# EAGLE library part FTDI_MORPH-IC_II (library ik)
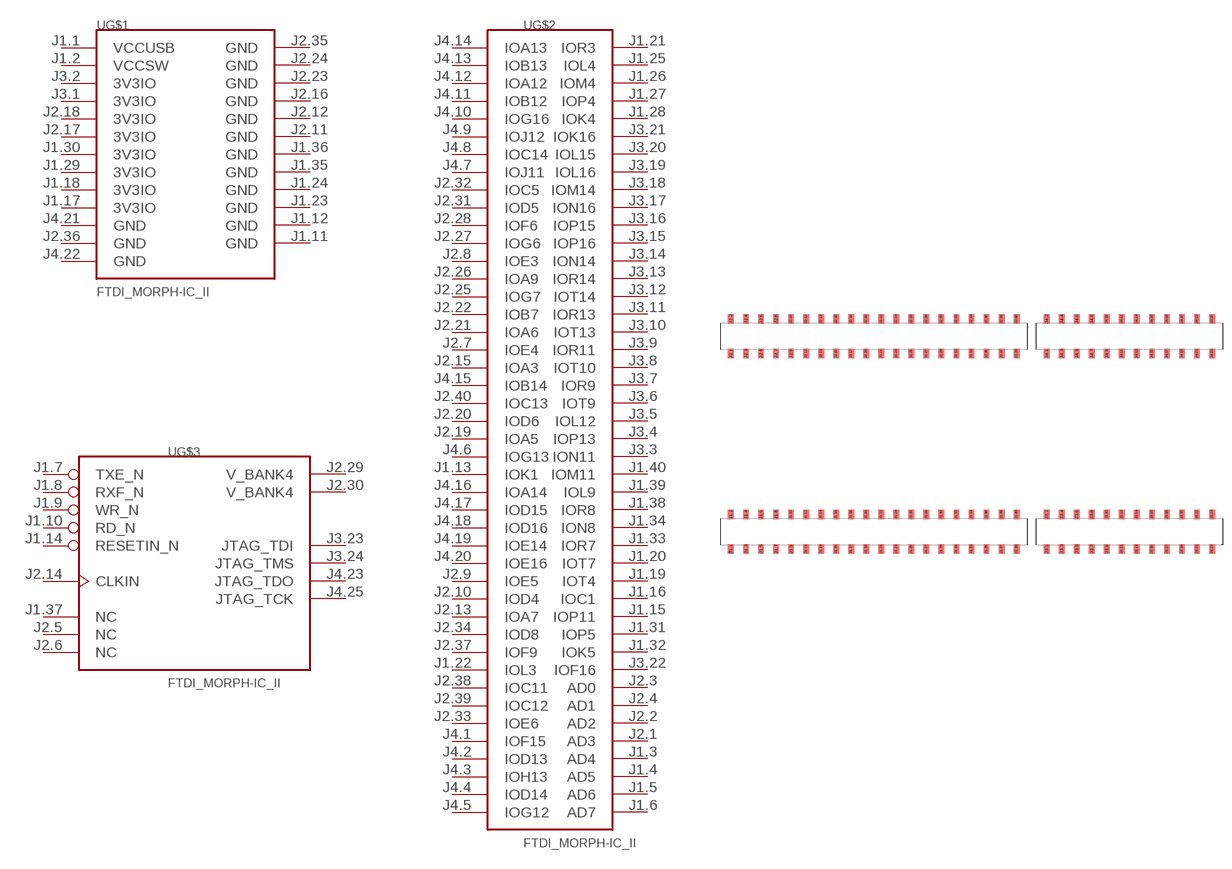
[diagram p6: symbol with the pads of MORPH-IC-II; footprint MORPH-IC-II]

Designator prefix -; gates G$1=FTDI_MORPH-IC_II_PWR G$2=FTDI_MORPH-IC_II_IO G$3=FTDI_MORPH-IC_II_MISC

## FTDI_MORPH-IC_II  [MORPH-IC-II]
J1.1  G$1:VCCUSB  pwr
J1.2  G$1:VCCSW  pwr
J1.3  G$2:AD4
J1.4  G$2:AD5
J1.5  G$2:AD6
J1.6  G$2:AD7
J1.7  G$3:TXE_N
J1.8  G$3:RXF_N
J1.9  G$3:WR_N
J1.10  G$3:RD_N
J1.11  G$1:GND  pwr
J1.12  G$1:GND  pwr
J1.13  G$2:IOK1
J1.14  G$3:RESETIN_N
J1.15  G$2:IOP11
J1.16  G$2:IOC1
J1.17  G$1:3V3IO  pwr
J1.18  G$1:3V3IO  pwr
J1.19  G$2:IOT4
J1.20  G$2:IOT7
J1.21  G$2:IOR3
J1.22  G$2:IOL3
J1.23  G$1:GND  pwr
J1.24  G$1:GND  pwr
J1.25  G$2:IOL4
J1.26  G$2:IOM4
J1.27  G$2:IOP4
J1.28  G$2:IOK4
J1.29  G$1:3V3IO  pwr
J1.30  G$1:3V3IO  pwr
J1.31  G$2:IOP5
J1.32  G$2:IOK5
J1.33  G$2:IOR7
J1.34  G$2:ION8
J1.35  G$1:GND  pwr
J1.36  G$1:GND  pwr
J1.37  G$3:NC  nc
J1.38  G$2:IOR8
J1.39  G$2:IOL9
J1.40  G$2:IOM11
J2.1  G$2:AD3
J2.2  G$2:AD2
J2.3  G$2:AD0
J2.4  G$2:AD1
J2.5  G$3:NC  nc
J2.6  G$3:NC  nc
J2.7  G$2:IOE4
J2.8  G$2:IOE3
J2.9  G$2:IOE5
J2.10  G$2:IOD4
J2.11  G$1:GND  pwr
J2.12  G$1:GND  pwr
J2.13  G$2:IOA7
J2.14  G$3:CLKIN  in
J2.15  G$2:IOA3
J2.16  G$1:GND  pwr
J2.17  G$1:3V3IO  pwr
J2.18  G$1:3V3IO  pwr
J2.19  G$2:IOA5
J2.20  G$2:IOD6
J2.21  G$2:IOA6
J2.22  G$2:IOB7
J2.23  G$1:GND  pwr
J2.24  G$1:GND  pwr
J2.25  G$2:IOG7
J2.26  G$2:IOA9
J2.27  G$2:IOG6
J2.28  G$2:IOF6
J2.29  G$3:V_BANK4
J2.30  G$3:V_BANK4
J2.31  G$2:IOD5
J2.32  G$2:IOC5
J2.33  G$2:IOE6
J2.34  G$2:IOD8
J2.35  G$1:GND  pwr
J2.36  G$1:GND  pwr
J2.37  G$2:IOF9
J2.38  G$2:IOC11
J2.39  G$2:IOC12
J2.40  G$2:IOC13
J3.1  G$1:3V3IO  pwr
J3.2  G$1:3V3IO  pwr
J3.3  G$2:ION11
J3.4  G$2:IOP13
J3.5  G$2:IOL12
J3.6  G$2:IOT9
J3.7  G$2:IOR9
J3.8  G$2:IOT10
J3.9  G$2:IOR11
J3.10  G$2:IOT13
J3.11  G$2:IOR13
J3.12  G$2:IOT14
J3.13  G$2:IOR14
J3.14  G$2:ION14
J3.15  G$2:IOP16
J3.16  G$2:IOP15
J3.17  G$2:ION16
J3.18  G$2:IOM14
J3.19  G$2:IOL16
J3.20  G$2:IOL15
J3.21  G$2:IOK16
J3.22  G$2:IOF16
J3.23  G$3:JTAG_TDI
J3.24  G$3:JTAG_TMS
J4.1  G$2:IOF15
J4.2  G$2:IOD13
J4.3  G$2:IOH13
J4.4  G$2:IOD14
J4.5  G$2:IOG12
J4.6  G$2:IOG13
J4.7  G$2:IOJ11
J4.8  G$2:IOC14
J4.9  G$2:IOJ12
J4.10  G$2:IOG16
J4.11  G$2:IOB12
J4.12  G$2:IOA12
J4.13  G$2:IOB13
J4.14  G$2:IOA13
J4.15  G$2:IOB14
J4.16  G$2:IOA14
J4.17  G$2:IOD15
J4.18  G$2:IOD16
J4.19  G$2:IOE14
J4.20  G$2:IOE16
J4.21  G$1:GND  pwr
J4.22  G$1:GND  pwr
J4.23  G$3:JTAG_TDO
J4.25  G$3:JTAG_TCK

## Footprint MORPH-IC-II (pad centres in mm)
FTDI Morph-IC-II headers
smd 0.991 x 1.549: J1.1 -68.58,-18.542; J1.2 -68.58,-12.7; J1.3 -66.04,-18.542; J1.4 -66.04,-12.7; J1.5 -63.5,-18.542; J1.6 -63.5,-12.7; J1.7 -60.96,-18.542; J1.8 -60.96,-12.7; J1.9 -58.42,-18.542; J1.10 -58.42,-12.7; J1.11 -55.88,-18.542; J1.12 -55.88,-12.7; J1.13 -53.34,-18.542; J1.14 -53.34,-12.7; J1.15 -50.8,-18.542; J1.16 -50.8,-12.7; J1.17 -48.26,-18.542; J1.18 -48.26,-12.7; J1.19 -45.72,-18.542; J1.20 -45.72,-12.7; J1.21 -43.18,-18.542; J1.22 -43.18,-12.7; J1.23 -40.64,-18.542; J1.24 -40.64,-12.7; J1.25 -38.1,-18.542; J1.26 -38.1,-12.7; J1.27 -35.56,-18.542; J1.28 -35.56,-12.7; J1.29 -33.02,-18.542; J1.30 -33.02,-12.7; J1.31 -30.48,-18.542; J1.32 -30.48,-12.7; J1.33 -27.94,-18.542; J1.34 -27.94,-12.7; J1.35 -25.4,-18.542; J1.36 -25.4,-12.7; J1.37 -22.86,-18.542; J1.38 -22.86,-12.7; J1.39 -20.32,-18.542; J1.40 -20.32,-12.7; J2.1 -68.58,14.478; J2.2 -68.58,20.32; J2.3 -66.04,14.478; J2.4 -66.04,20.32; J2.5 -63.5,14.478; J2.6 -63.5,20.32; J2.7 -60.96,14.478; J2.8 -60.96,20.32; J2.9 -58.42,14.478; J2.10 -58.42,20.32; J2.11 -55.88,14.478; J2.12 -55.88,20.32; J2.13 -53.34,14.478; J2.14 -53.34,20.32; J2.15 -50.8,14.478; J2.16 -50.8,20.32; J2.17 -48.26,14.478; J2.18 -48.26,20.32; J2.19 -45.72,14.478; J2.20 -45.72,20.32; J2.21 -43.18,14.478; J2.22 -43.18,20.32; J2.23 -40.64,14.478; J2.24 -40.64,20.32; J2.25 -38.1,14.478; J2.26 -38.1,20.32; J2.27 -35.56,14.478; J2.28 -35.56,20.32; J2.29 -33.02,14.478; J2.30 -33.02,20.32; J2.31 -30.48,14.478; J2.32 -30.48,20.32; J2.33 -27.94,14.478; J2.34 -27.94,20.32; J2.35 -25.4,14.478; J2.36 -25.4,20.32; J2.37 -22.86,14.478; J2.38 -22.86,20.32; J2.39 -20.32,14.478; J2.40 -20.32,20.32; J3.1 -15.24,-18.542; J3.2 -15.24,-12.7; J3.3 -12.7,-18.542; J3.4 -12.7,-12.7; J3.5 -10.16,-18.542; J3.6 -10.16,-12.7; J3.7 -7.62,-18.542; J3.8 -7.62,-12.7; J3.9 -5.08,-18.542; J3.10 -5.08,-12.7; J3.11 -2.54,-18.542; J3.12 -2.54,-12.7; J3.13 0,-18.542; J3.14 0,-12.7; J3.15 2.54,-18.542; J3.16 2.54,-12.7; J3.17 5.08,-18.542; J3.18 5.08,-12.7; J3.19 7.62,-18.542; J3.20 7.62,-12.7; J3.21 10.16,-18.542; J3.22 10.16,-12.7; J3.23 12.7,-18.542; J3.24 12.7,-12.7; J4.1 -15.24,14.478; J4.2 -15.24,20.32; J4.3 -12.7,14.478; J4.4 -12.7,20.32; J4.5 -10.16,14.478; J4.6 -10.16,20.32; J4.7 -7.62,14.478; J4.8 -7.62,20.32; J4.9 -5.08,14.478; J4.10 -5.08,20.32; J4.11 -2.54,14.478; J4.12 -2.54,20.32; J4.13 0,14.478; J4.14 0,20.32; J4.15 2.54,14.478; J4.16 2.54,20.32; J4.17 5.08,14.478; J4.18 5.08,20.32; J4.19 7.62,14.478; J4.20 7.62,20.32; J4.21 10.16,14.478; J4.22 10.16,20.32; J4.23 12.7,14.478; J4.25 12.7,20.32